# EAGLE library part CC2640R2-LAUNCHPAD (library dsantoro-misc)
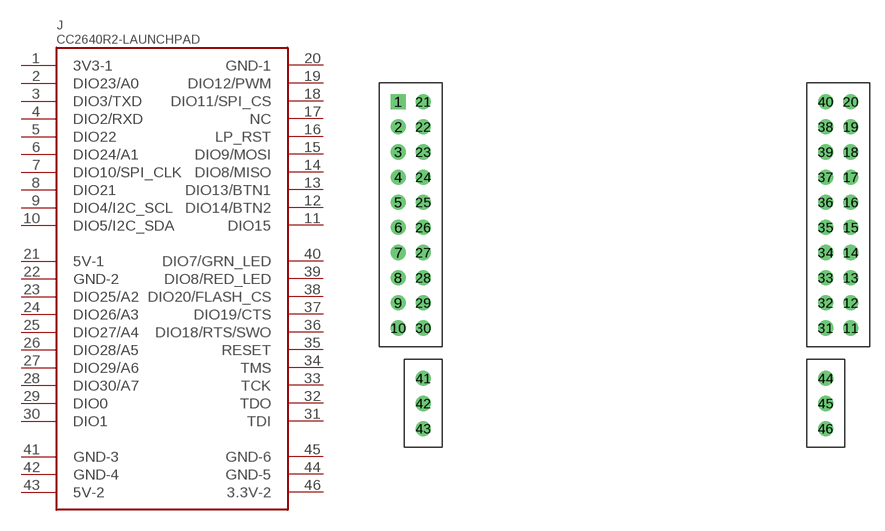
[diagram p4: symbol with the pads of CC2640R2-LAUNCHPAD; footprint CC2640R2-LAUNCHPAD]

Designator prefix J

## CC2640R2-LAUNCHPAD  [CC2640R2-LAUNCHPAD]
1  3V3-1
2  DIO23/A0
3  DIO3/TXD
4  DIO2/RXD
5  DIO22
6  DIO24/A1
7  DIO10/SPI_CLK
8  DIO21
9  DIO4/I2C_SCL
10  DIO5/I2C_SDA
11  DIO15
12  DIO14/BTN2
13  DIO13/BTN1
14  DIO8/MISO
15  DIO9/MOSI
16  LP_RST
17  NC
18  DIO11/SPI_CS
19  DIO12/PWM
20  GND-1
21  5V-1
22  GND-2
23  DIO25/A2
24  DIO26/A3
25  DIO27/A4
26  DIO28/A5
27  DIO29/A6
28  DIO30/A7
29  DIO0
30  DIO1
31  TDI
32  TDO
33  TCK
34  TMS
35  RESET
36  DIO18/RTS/SWO
37  DIO19/CTS
38  DIO20/FLASH_CS
39  DIO8/RED_LED
40  DIO7/GRN_LED
41  GND-3
42  GND-4
43  5V-2
44  GND-5
45  GND-6
46  3.3V-2

## Footprint CC2640R2-LAUNCHPAD (pad centres in mm)
drill 1.02 square: 1 0,0
drill 1.02: 2 0,-2.54; 3 0,-5.08; 4 0,-7.62; 5 0,-10.16; 6 0,-12.7; 7 0,-15.24; 8 0,-17.78; 9 0,-20.32; 10 0,-22.86; 11 45.72,-22.86; 12 45.72,-20.32; 13 45.72,-17.78; 14 45.72,-15.24; 15 45.72,-12.7; 16 45.72,-10.16; 17 45.72,-7.62; 18 45.72,-5.08; 19 45.72,-2.54; 20 45.72,0; 21 2.54,0; 22 2.54,-2.54; 23 2.54,-5.08; 24 2.54,-7.62; 25 2.54,-10.16; 26 2.54,-12.7; 27 2.54,-15.24; 28 2.54,-17.78; 29 2.54,-20.32; 30 2.54,-22.86; 31 43.18,-22.86; 32 43.18,-20.32; 33 43.18,-17.78; 34 43.18,-15.24; 35 43.18,-12.7; 36 43.18,-10.16; 37 43.18,-7.62; 38 43.18,-2.54; 39 43.18,-5.08; 40 43.18,0; 41 2.54,-27.94; 42 2.54,-30.48; 43 2.54,-33.02; 44 43.18,-27.94; 45 43.18,-30.48; 46 43.18,-33.02